# EAGLE library part FPS009-300* (library con-yamaichi)
SD Card and MMC Reader (Manual Insertion) Source: http://www.yamaichi.de/pdf/c_fps009_3000.pdf
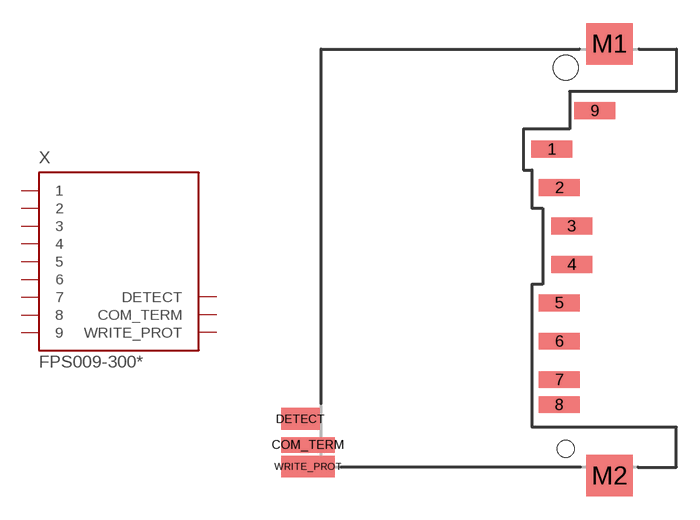
[diagram p3: symbol with the pads of FPS009-3000; footprint FPS009-3000]

Designator prefix X

## FPS009-3000 (OC_FARNELL: unknown; OC_NEWARK: unknown), FPS009-3001 (MPN: FPS009-3001-BL; OC_FARNELL: 1143952; OC_NEWARK: 91K9875), FPS009-3002 (OC_FARNELL: unknown; OC_NEWARK: unknown)  [FPS009-3000]
1  1  in
2  2  in
3  3  in
4  4  in
5  5  in
6  6  in
7  7  in
8  8  in
9  9  in
COM_TERM  COM_TERM  in
DETECT  DETECT  in
WRITE_PROT  WRITE_PROT  in

## Footprint FPS009-3000 (pad centres in mm)
SD Card and MMC Reader (Manual Insertion) Source: http://www.yamaichi.de/pdf/c_fps009_3000.pdf
smd 2.65 x 1.1: 1 -0.915,-5.3; 2 -0.415,-7.8; 3 0.385,-10.3; 4 0.385,-12.8; 5 -0.415,-15.3; 6 -0.415,-17.8; 7 -0.415,-20.3; 8 -0.415,-21.925; 9 1.885,-2.8
smd 3.5 x 1: COM_TERM -16.75,-24.55
smd 2.5 x 1.4: DETECT -17.25,-22.85
smd 3 x 2.7: M1 2.85,1.55; M2 2.85,-26.55
smd 3.5 x 1.4: WRITE_PROT -16.75,-25.95
hole 1.6 at 0,0
hole 1.1 at 0,-24.8